# Altium footprint library Fuse.PcbLib: 11 footprints
Each footprint in its own frame and in the unit in brackets; x right, y up, seen from the top. Pads: shape width x height; smd on the part's side, far side on the other; paste and mask are expansions set on the pad; w line width, h text height; cw(c..) or ccw(c..) is an arc to the next point about the centre after c.
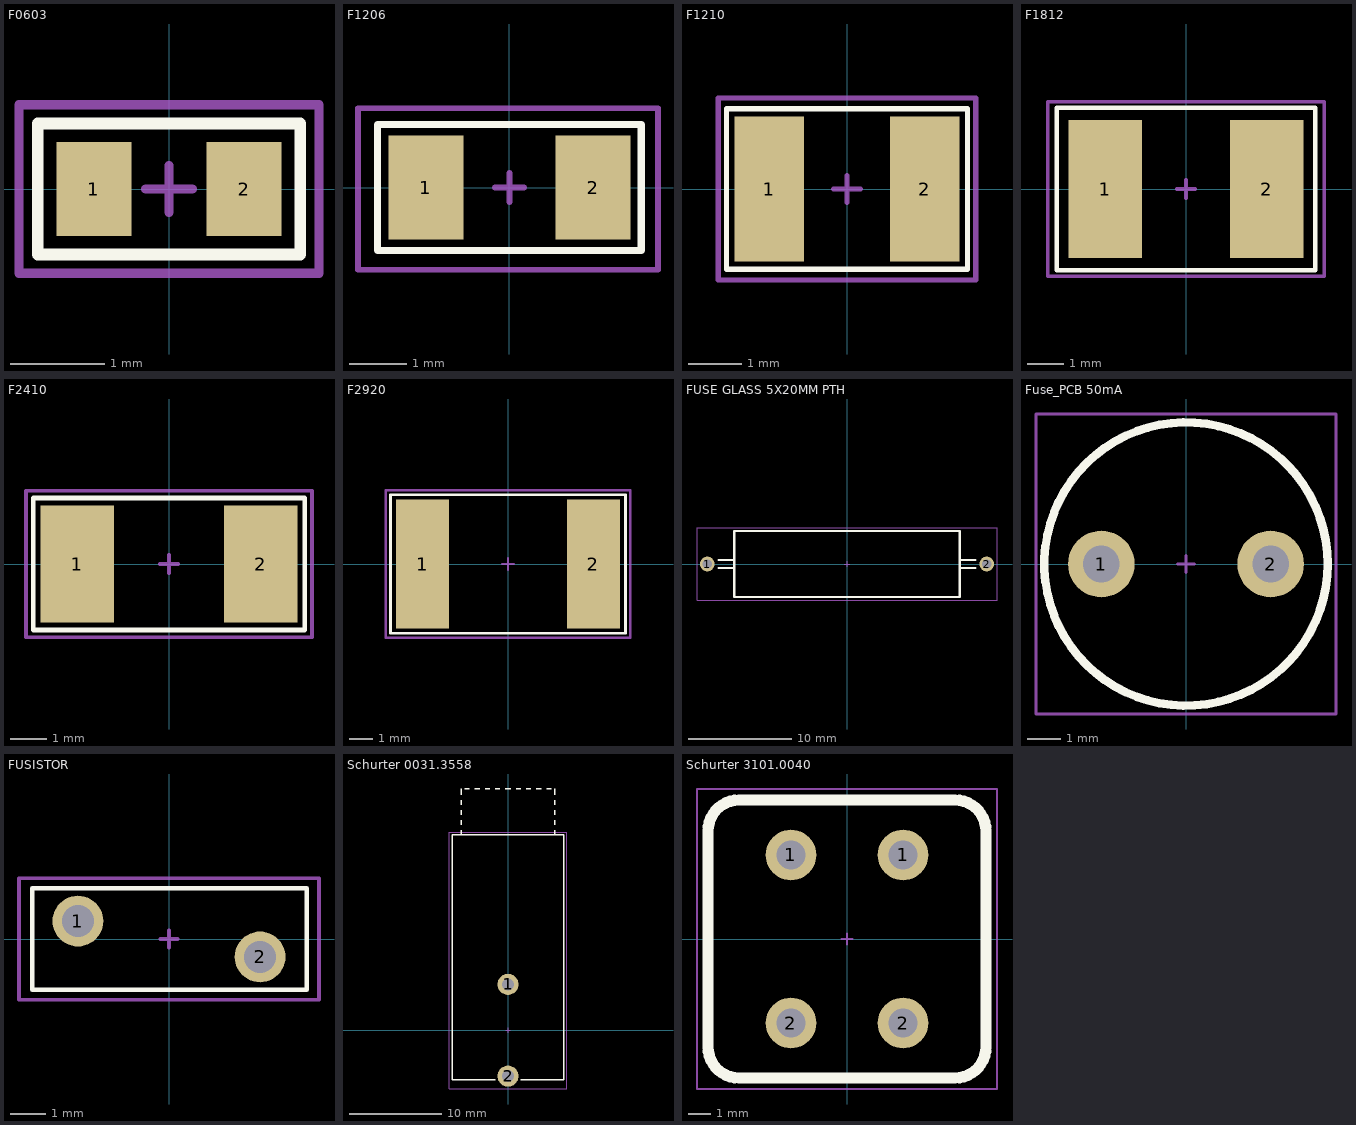
[diagram p0: the footprints below, top view; thin cyan lines are the x and y axes]

## F0603 [mm]
pads (2):
  rect 0.8x1 smd: 1(-0.8,0) 2(0.8,0)
Top Overlay:
  lines w0.127: -1.4,-0.7 1.4,-0.7 1.4,0.7 -1.4,0.7 -1.4,-0.7
Mechanical 15:
  lines w0.1: -0.25,0 0.25,0 ; 0,-0.25 0,0.25 ; -1.6,-0.9 1.6,-0.9 1.6,0.9 -1.6,0.9 -1.6,-0.9
3D body "User Library-Fast Acting Surface-Mount Fuses0603.STEP": height 0.8, standoff 0, extent -0.8,-0.401 0.8,0.401

## F1206 [mm]
pads (2):
  rect 1.3x1.8 smd: 1(-1.45,0) 2(1.45,0)
Top Overlay:
  lines w0.127: -2.286,-1.092 -2.286,1.092 2.286,1.092 2.286,-1.092 -2.286,-1.092
Mechanical 15:
  lines w0.1: -0.25,0 0.25,0 ; 0,-0.25 0,0.25 ; -2.625,-1.425 -2.625,1.375 2.575,1.375 2.575,-1.425 -2.625,-1.425
3D body "User Library-nona SMD075F.step": height 0.56, standoff 0, extent -1.601,-0.826 1.601,0.826

## F1210 [mm]
pads (2):
  rect 1.3x2.7 smd: 1(-1.45,0) 2(1.45,0)
Top Overlay:
  lines w0.1: -2.25,-1.5 2.25,-1.5 2.25,1.5 -2.25,1.5 -2.25,-1.5
Mechanical 15:
  lines w0.1: -0.25,0 0.25,0 ; 0,-0.25 0,0.25 ; -2.4,-1.7 -2.4,1.7 2.4,1.7 2.4,-1.7 -2.4,-1.7
3D body "User Library-Fuse1210.step": height 0.67, standoff 0, extent -1.607,-1.287 1.608,1.288

## F1812 [mil]
height 25
pads (2):
  rect 80x150 smd: 1(-87.5,0) 2(87.5,0)
Top Overlay:
  lines w5: -140,-88 140,-88 140,88 -140,88 -140,-88
Mechanical 15:
  lines w3.94: -9.84,0 9.84,0 ; 0,-9.84 0,9.84 ; -149.61,-94.49 -149.61,94.49 149.61,94.49 149.61,-94.49 -149.61,-94.49
3D body "F1812.step": height 52.8, standoff 0, extent -93.1,-67.12 93.12,67.13

## F2410 [mm]
height 0.635
pads (2):
  rect 2x3.18 smd: 1(-2.5,0) 2(2.5,0)
Top Overlay:
  lines w0.127: -3.7,-1.8 3.7,-1.8 3.7,1.8 -3.7,1.8 -3.7,-1.8
Mechanical 15:
  lines w0.1: -0.25,0 0.25,0 ; 0,-0.25 0,0.25 ; -3.9,-2 -3.9,2 3.9,2 3.9,-2 -3.9,-2
3D body "SSQ Fuse.STEP": height 2.54, standoff 0, extent -3.249,-1.27 3.249,1.27

## F2920 [mm]
height 0.635
pads (2):
  rect 2.3x5.6 smd: 1(-3.7,0) 2(3.7,0)
Top Overlay:
  lines w0.127: -5.1,-3 5.1,-3 5.1,3 -5.1,3 -5.1,-3
Mechanical 15:
  lines w0.1: -0.25,0 0.25,0 ; 0,-0.25 0,0.25 ; -5.3,-3.2 -5.3,3.2 5.3,3.2 5.3,-3.2 -5.3,-3.2
3D body "User Library-0ZCF0200AF2C.step": height 0.8, standoff 0, extent -3.99,-2.72 3.99,2.72

## FUSE GLASS 5X20MM PTH [mm]
pads (2):
  round 1.422 hole 0.9: 1(-13.5,0) 2(13.5,0)
Top Overlay:
  lines w0.2: -12.4,-0.4 -10.9,-0.4 ; -12.4,0.4 -10.9,0.4 ; 10.9,-0.4 12.4,-0.4 ; 10.9,0.4 12.4,0.4 ; -10.9,-3.2 10.9,-3.2 10.9,3.2 -10.9,3.2 -10.9,-3.2
Mechanical 15:
  lines w0.1: -0.25,0 0.25,0 ; 0,-0.25 0,0.25 ; -14.5,-3.5 14.5,-3.5 14.5,3.5 -14.5,3.5 -14.5,-3.5
3D body "Fuse 5x20mm 27mm pitch.STEP": height 7.1, standoff -2.7, extent -13.7,-3.1 13.95,3.1

## Fuse_PCB 50mA [mm]
pads (2):
  round 2 hole 1.1: 1(-2.54,0) 2(2.54,0)
Top Overlay:
  circle w0.254: c0,0 r4.25
Mechanical 15:
  lines w0.1: -0.25,0 0.25,0 ; 0,-0.25 0,0.25 ; -4.5,-4.5 4.5,-4.5 4.5,4.5 -4.5,4.5 -4.5,-4.5
3D body "Fuísivel 37200500411 .STEP": height 8, standoff -4.3, extent -4.25,-4.25 4.25,4.25

## FUSISTOR [mil]
pads (2):
  round 56 hole 35.43: 1(-100.4,19.75) 2(100.4,-19.75)
Top Overlay:
  lines w5: -151,-56 -151,56 152,56 152,-56 -151,-56
Mechanical 15:
  lines w3.94: -9.84,0 9.84,0 ; 0,-9.84 0,9.84 ; -165.35,-66.93 -165.35,66.93 165.35,66.93 165.35,-66.93 -165.35,-66.93
3D body "43ROJ9105000.stp": height 583.07, standoff -134.27, extent -145.66,-33.46 145.68,33.47

## Schurter 0031.3558 [mm]
height 10
pads (2):
  round 2.3 hole 1.3: 1(0,5) 2(0,-5)
Top Overlay:
  lines w0.15: -5.1,21.3 -5.1,21.8 ; -5.1,22.4 -5.1,22.9 ; -5.1,23.5 -5.1,24 ; -5.1,24.6 -5.1,25.1 ; -5.1,25.7 -5.1,26.3 ; -4.7,26.3 -4.2,26.3 ; -3.6,26.3 -3.1,26.3 ; -2.5,26.3 -2,26.3 ; -1.4,-5.4 -6.1,-5.4 -6.1,21.3 6.1,21.3 6.1,-5.4 1.4,-5.4 ; -1.4,26.3 -0.9,26.3 ; -0.3,26.3 0.3,26.3 ; 0.9,26.3 1.4,26.3 ; 2,26.3 2.5,26.3 ; 3.1,26.3 3.6,26.3 ; 4.2,26.3 4.7,26.3 ; 5.1,21.3 5.1,21.8 ; 5.1,22.4 5.1,22.9 ; 5.1,23.5 5.1,24 ; 5.1,24.6 5.1,25.1 ; 5.1,25.7 5.1,26.3
Mechanical 15:
  lines w0.1: -0.25,0 0.25,0 ; 0,-0.25 0,0.25 ; -6.4,-6.4 6.4,-6.4 6.4,21.6 -6.4,21.6 -6.4,-6.4
3D body "0031.3558.STEP": height 10.23, standoff -5, extent -6,-5.3 6,26.2

## Schurter 3101.0040 [mm] "FUSEHOLDER SLOT FPG4 IP40 PCB"
height 32.6
pads (4):
  round 2.3 hole 1.3: 1(-2.54,3.81) 1(2.54,3.81) 2(-2.54,-3.81) 2(2.54,-3.81)
Top Overlay:
  lines w0.508: -6.3,-4.9 ccw(c-4.9,-4.9) -4.9,-6.3 4.9,-6.3 ccw(c4.9,-4.9) 6.3,-4.9 6.3,4.9 ccw(c4.9,4.9) 4.9,6.3 -4.9,6.3 ccw(c-4.9,4.9) -6.3,4.9 -6.3,-4.9
Mechanical 15:
  lines w0.1: -0.25,0 0.25,0 ; 0,-0.25 0,0.25 ; -6.8,-6.8 -6.8,6.8 6.8,6.8 6.8,-6.8 -6.8,-6.8
3D body "Schurter 3101-004.STEP": height 32.6, standoff -5.2, extent -6.3,-6.3 6.2,6.2